# EAGLE library part ATTINY25*M (library avr)
MICROCONTROLLER 2 Kbytes FLASH 128 bytes EEPROM 128 bytes RAM 4-channel 10 bit ADC USI
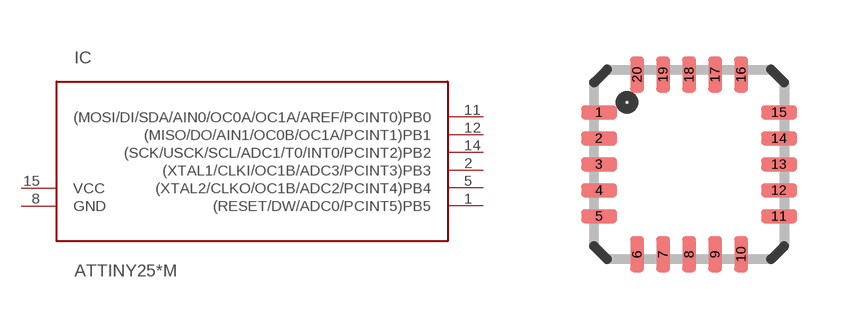
[diagram p69: symbol with the pads of MLF20; footprint MLF20]

Designator prefix IC

## ATTINY25-20M, ATTINY25V-10M  [MLF20]
1  (RESET/DW/ADC0/PCINT5)PB5
2  (XTAL1/CLKI/OC1B/ADC3/PCINT3)PB3
3  P$1  nc
4  P$2  nc
5  (XTAL2/CLKO/OC1B/ADC2/PCINT4)PB4
6  P$3  nc
7  P$4  nc
8  GND
9  P$5  nc
10  P$6  nc
11  (MOSI/DI/SDA/AIN0/OC0A/OC1A/AREF/PCINT0)PB0
12  (MISO/DO/AIN1/OC0B/OC1A/PCINT1)PB1
13  P$7  nc
14  (SCK/USCK/SCL/ADC1/T0/INT0/PCINT2)PB2
15  VCC
16  P$8  nc
17  P$9  nc
18  P$10  nc
19  P$11  nc
20  P$12  nc

## Footprint MLF20 (pad centres in mm)
HP-VFQFP-N20 Micro Lead Frame package (MLF)
smd 0.9 x 0.35: 1 -2.25,1.3; 2 -2.25,0.65; 3 -2.25,0; 4 -2.25,-0.65; 5 -2.25,-1.3; 11 2.25,-1.3; 12 2.25,-0.65; 13 2.25,0; 14 2.25,0.65; 15 2.25,1.3
smd 0.35 x 0.9: 6 -1.3,-2.25; 7 -0.65,-2.25; 8 0,-2.25; 9 0.65,-2.25; 10 1.3,-2.25; 16 1.3,2.25; 17 0.65,2.25; 18 0,2.25; 19 -0.65,2.25; 20 -1.3,2.25